# EAGLE library part GKSLOT (library 029000100  -  gKEagleLibrary)
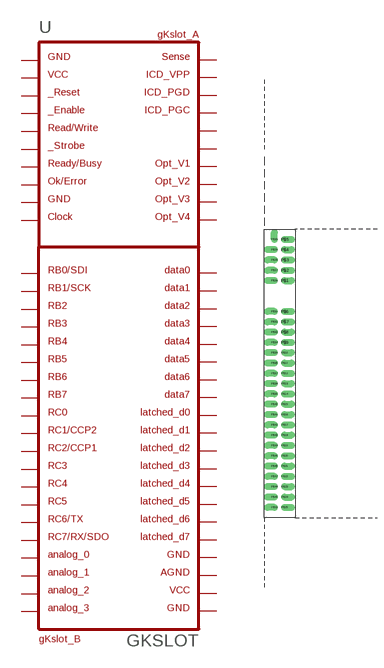
[diagram p20: symbol with the pads of GKSLOT; footprint GKSLOT]

Designator prefix -

## GKSLOT  [GKSLOT]
P$1  1  pas
P$2  2  pwr
P$3  3  pas
P$4  4  pas
P$5  5  pas
P$6  6  pas
P$7  7  pas
P$8  8  pas
P$9  9  pwr
P$10  10  pwr
P$11  11
P$12  12
P$13  13
P$14  14
P$15  15
P$16  16
P$17  17
P$18  18
P$19  19
P$20  20
P$21  21
P$22  22
P$23  23
P$24  24
P$25  25
P$26  26
P$27  27
P$28  28
P$29  29
P$30  30
P$31  31
P$32  32
P$33  33
P$34  34
P$35  35
P$36  36
P$37  37
P$38  38
P$39  39
P$40  40
P$41  41
P$42  42
P$43  43
P$44  44
P$45  45
P$46  46
P$47  47
P$48  48
P$49  49
P$50  50

## Footprint GKSLOT (pad centres in mm)
drill 0.9 pad 1.676 offset: P$1 5.08,58.42; P$2 5.08,60.96; P$3 5.08,63.5; P$4 5.08,66.04; P$5 5.08,68.58; P$6 5.08,50.8; P$7 5.08,48.26; P$8 5.08,45.72; P$9 5.08,43.18; P$10 5.08,40.64; P$11 5.08,38.1; P$12 5.08,35.56; P$13 5.08,33.02; P$14 5.08,30.48; P$15 5.08,27.94; P$16 5.08,25.4; P$17 5.08,22.86; P$18 5.08,20.32; P$19 5.08,17.78; P$20 5.08,15.24; P$21 5.08,12.7; P$22 5.08,10.16; P$23 5.08,7.62; P$24 5.08,5.08; P$25 5.08,2.54; P$26 2.54,58.42; P$27 2.54,60.96; P$28 2.54,63.5; P$29 2.54,66.04; P$30 2.54,68.58; P$31 2.54,50.8; P$32 2.54,48.26; P$33 2.54,45.72; P$34 2.54,43.18; P$35 2.54,40.64; P$36 2.54,38.1; P$37 2.54,35.56; P$38 2.54,33.02; P$39 2.54,30.48; P$40 2.54,27.94; P$41 2.54,25.4; P$42 2.54,22.86; P$43 2.54,20.32; P$44 2.54,17.78; P$45 2.54,15.24; P$46 2.54,12.7; P$47 2.54,10.16; P$48 2.54,7.62; P$49 2.54,5.08; P$50 2.54,2.54